# Altium footprint library mypcblib.PcbLib: 128 footprints (part 8 of 8)
Each footprint in its own frame and in the unit in brackets; x right, y up, seen from the top. Pads: shape width x height; smd on the part's side, far side on the other; paste and mask are expansions set on the pad; w line width, h text height; cw(c..) or ccw(c..) is an arc to the next point about the centre after c.
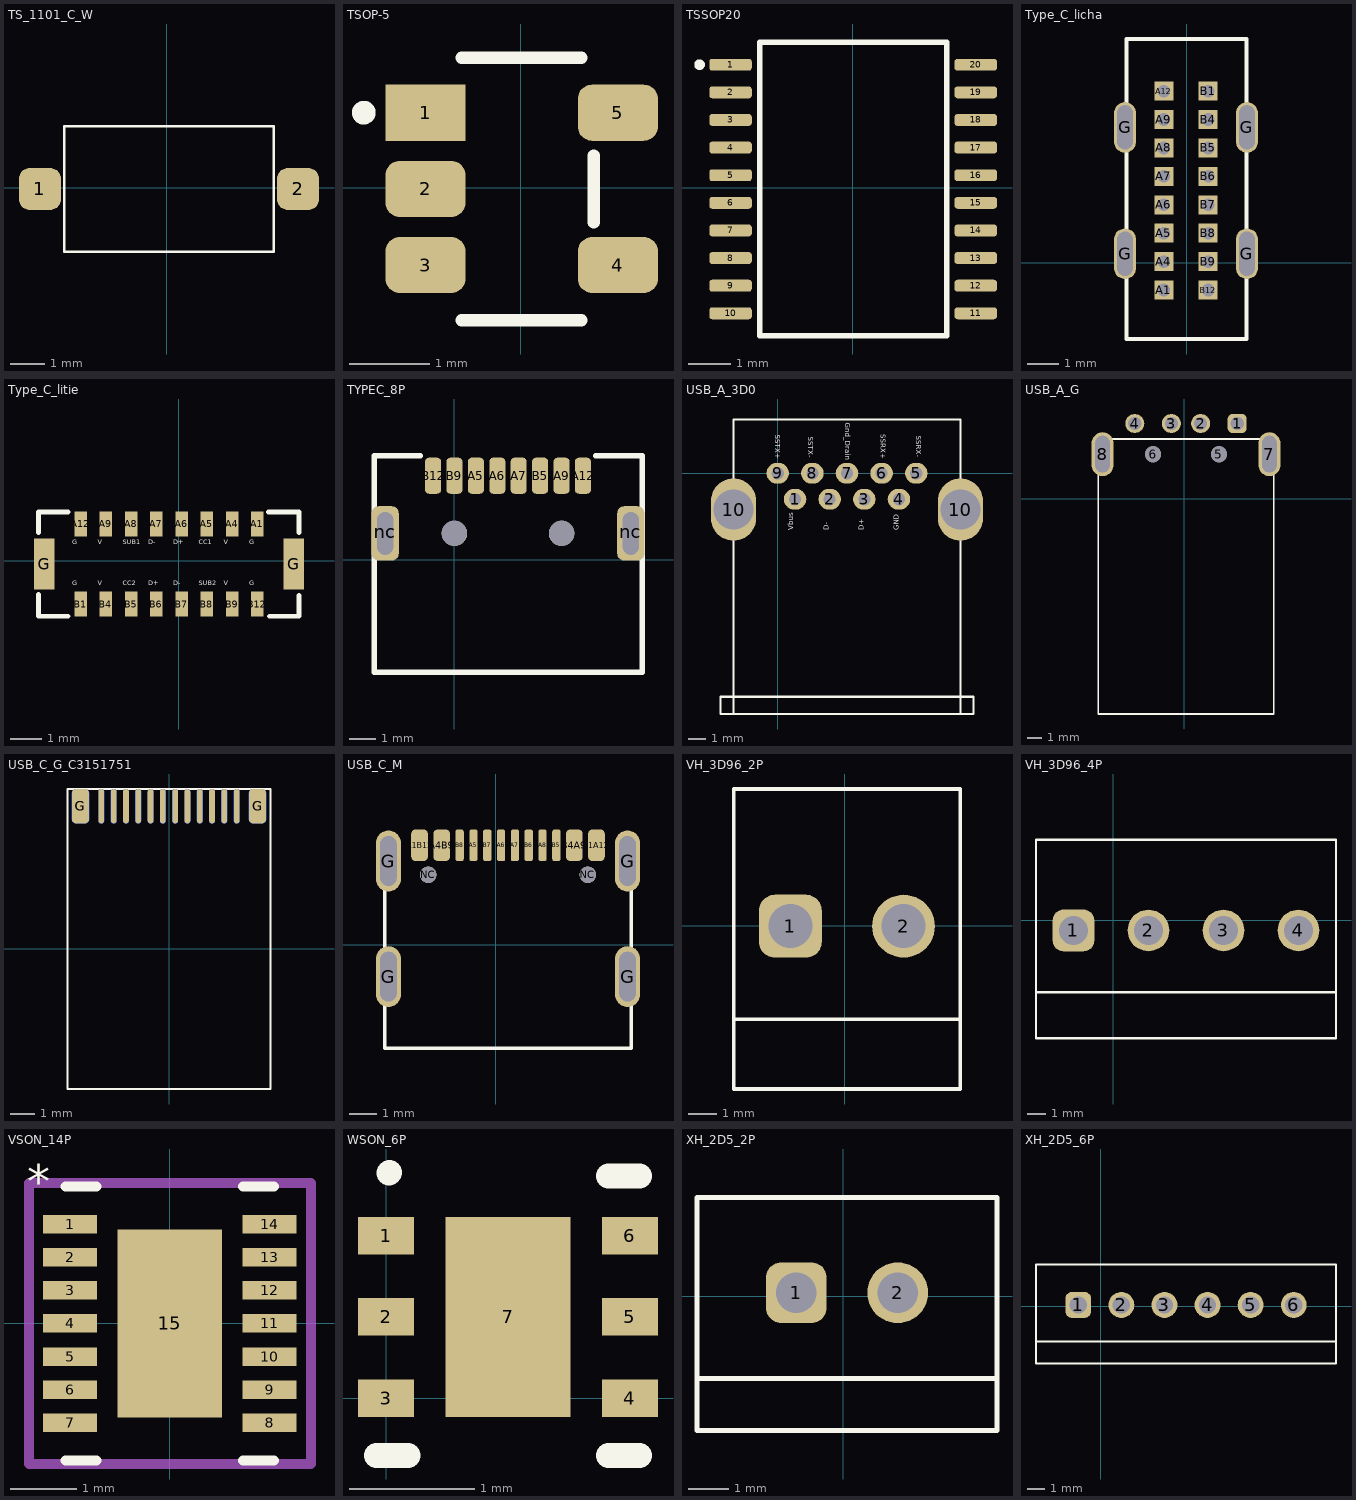
[diagram p7: the footprints below, top view; thin cyan lines are the x and y axes]

## TS_1101_C_W [mm]
pads (2):
  rrect50% 1.2x1.2 smd: 1(-3.64,-0.04) 2(3.76,-0.04)
Top Overlay:
  lines w0.08: -2.94,-1.84 3.06,-1.84 3.06,1.76 -2.94,1.76 -2.94,-1.84

## TSOP-5 [mm] "NCS2003SN2T1G"
pads (5):
  rect 1x0.7 smd: 1(-1.185,0.939)
  rrect50% 1x0.7 smd: 2(-1.185,-0.011) 3(-1.185,-0.961) 4(1.215,-0.961) 5(1.215,0.939)
Top Overlay:
  circle w0.152: c-1.956,0.94 r0.072
  lines w0.152: -0.737,-1.651 0.762,-1.651 ; -0.737,1.626 0.762,1.626 ; 0.914,-0.432 0.914,0.406

## TSSOP20 [mm]
pads (20):
  rrect50% 1x0.28 smd: 1(-2.87,2.9) 2(-2.87,2.25) 3(-2.87,1.6) 4(-2.87,0.95) 5(-2.87,0.3) 6(-2.87,-0.35) 7(-2.87,-1) 8(-2.87,-1.65) 9(-2.87,-2.3) 10(-2.87,-2.95) 11(2.9,-2.95) 12(2.9,-2.3) 13(2.9,-1.65) 14(2.9,-1) 15(2.9,-0.35) 16(2.9,0.3) 17(2.9,0.95) 18(2.9,1.6) 19(2.9,2.25) 20(2.9,2.9)
Top Overlay:
  circle w0.127: c-3.6,2.9 r0.06
  lines w0.127: 2.217,-2.84 2.217,-3.06 2.217,-2.41 2.217,-2.19 ; 2.217,-1.76 2.217,-1.54 ; 2.217,-1.11 2.217,-0.89 ; 2.217,-0.46 2.217,-0.24 ; 2.217,0.19 2.217,0.41 ; 2.217,0.84 2.217,1.06 ; 2.217,1.49 2.217,1.71 ; 2.217,2.14 2.217,2.36 ; 2.217,2.79 2.217,3.01 ; -2.183,-3.475 2.217,-3.475 2.217,3.425 -2.183,3.425 -2.183,-3.475
3D body "User Library-TSSOP20-TP.STEP": height 1.2, standoff 0, extent -3.255,-3.32 3.295,3.28

## Type_C_licha [mm] "C3151747"
pads (20):
  rect 0.6x0.6 hole 0.4: A1(-0.729,-0.863) A4(-0.729,0.037) A5(-0.729,0.937) A6(-0.729,1.837) A7(-0.729,2.737) A8(-0.729,3.637) A9(-0.729,4.537) A12(-0.729,5.437) B1(0.671,5.437) B4(0.671,4.537) B5(0.671,3.637) B6(0.671,2.737) B7(0.671,1.837) B8(0.671,0.937) B9(0.671,0.037) B12(0.671,-0.863)
  oval 0.7x1.6 hole 0.5 slot 1.4 at 90 deg: G(-1.959,0.287) G(-1.959,4.287) G(1.901,0.287) G(1.901,4.287)
Top Overlay:
  lines w0.127: -1.92,-2.413 1.88,-2.413 1.88,7.087 -1.92,7.087 -1.92,-2.413

## Type_C_litie [mm] "918-118A2021Y40002"
pads (18):
  rect 0.4x0.79 smd: A1(2.49,1.17) A4(1.69,1.17) A5(0.89,1.17) A6(0.09,1.17) A7(-0.71,1.17) A8(-1.51,1.17) A9(-2.31,1.17) A12(-3.11,1.17) B1(-3.11,-1.37) B4(-2.31,-1.37) B5(-1.51,-1.37) B6(-0.71,-1.37) B7(0.09,-1.37) B8(0.89,-1.37) B9(1.69,-1.37) B12(2.49,-1.37)
  rect 0.65x1.6 smd: G(-4.26,-0.1) G(3.64,-0.1)
Top Overlay:
  lines w0.152: -4.445,-1.067 -4.445,-1.753 -3.505,-1.753 ; -4.44,0.889 -4.44,1.547 -3.505,1.547 ; 2.845,1.549 3.81,1.549 3.81,0.889 ; 2.87,-1.753 3.81,-1.753 3.81,-1.092
  text "G" at -3.378,0.46 h0.25
  text "V" at -2.565,0.457 h0.25
  text "SUB1" at -1.778,0.46 h0.25
  text "D-" at -0.965,0.457 h0.25
  text "D+" at -0.178,0.457 h0.25
  text "CC1" at 0.635,0.46 h0.25
  text "V" at 1.422,0.457 h0.25
  text "G" at 2.235,0.46 h0.25
  text "G" at -3.378,-0.835 h0.25
  text "V" at -2.565,-0.838 h0.25
  text "CC2" at -1.778,-0.835 h0.25
  text "D+" at -0.965,-0.838 h0.25
  text "D-" at -0.178,-0.838 h0.25
  text "SUB2" at 0.635,-0.835 h0.25
  text "V" at 1.422,-0.838 h0.25
  text "G" at 2.235,-0.835 h0.25

## TYPEC_8P [mm]
pads (12):
  rrect50% 0.6x1.35 smd mask+0.051: A5(0.8,3.146) A6(1.6,3.146) A7(2.4,3.146) A9(4,3.146) A12(4.8,3.146) B5(3.2,3.146) B9(0,3.146) B12(-0.8,3.146)
  rrect50% 1.016x2.032 hole 0.6 slot 1.6 at 90 deg: nc(-2.587,0.991) nc(6.587,0.991)
  round 0.95 hole 0.95 mask+0.127: ""(0,0.991) ""(4,0.991)
Top Overlay:
  lines w0.203: -1.27,3.886 -2.997,3.886 -2.997,-4.191 7.01,-4.191 7.01,3.886 5.283,3.886

## USB_A_3D0 [mm] "C2845330"
pads (11):
  oval 1.3x1.2 hole 0.7: 1(1,-1.5) 2(3,-1.5) 3(5,-1.5) 4(7,-1.5) 5(8,0) 6(6,0) 7(4,0) 8(2,0) 9(0,0)
  oval 2.6x3.6 hole 2.3: 10(-2.55,-2.1) 10(10.55,-2.1)
Top Overlay:
  lines w0.127: -2.55,-13.9 -2.55,3.1 10.55,3.1 10.55,-13.9 ; -3.3,-13.9 -3.3,-12.9 11.3,-12.9 11.3,-13.9 -3.3,-13.9
  text "SSTX+" at -0.249,2.216 h0.5
  text "SSTX-" at 1.656,2.114 h0.5
  text "Gnd_Drain" at 3.772,2.921 h0.5
  text "SSRX+" at 5.847,2.266 h0.5
  text "SSRX-" at 7.879,2.164 h0.5
  text "GND" at 7.107,-3.302 h0.5
  text "D+" at 5.08,-3.302 h0.5
  text "D-" at 3.048,-3.302 h0.5
  text "Vbus" at 1.011,-3.301 h0.5

## USB_A_G [mm]
pads (8):
  rrect50% 1.3x1.3 hole 0.9: 1(3.61,5.124)
  round 1.3 hole 0.9: 2(1.11,5.124) 3(-0.89,5.124) 4(-3.39,5.124)
  round 1.1 hole 1.1: 5(2.36,3.024) 6(-2.14,3.024)
  oval 1.5x3 hole 1 slot 2.5 at 90 deg: 7(5.81,3.028) 8(-5.59,3.028)
Top Overlay:
  lines w0.127: -5.89,-14.726 -5.89,4.074 6.11,4.074 6.11,-14.726 -5.89,-14.726

## USB_C_G_C3151751 [mm]
pads (28):
  oval 0.23x1.4 smd: A1(2.74,5.8) A2(2.24,5.8) A3(1.74,5.8) A4(1.24,5.8) A5(0.74,5.8) A6(0.24,5.8) A7(-0.26,5.8) A8(-0.76,5.8) A9(-1.26,5.8) A10(-1.76,5.8) A11(-2.26,5.8) A12(-2.76,5.8)
  oval 0.23x1.4 smd far side: B1(-2.76,5.8) B2(-2.26,5.8) B3(-1.76,5.8) B4(-1.26,5.8) B5(-0.76,5.8) B6(-0.26,5.8) B7(0.24,5.8) B8(0.74,5.8) B9(1.24,5.8) B10(1.74,5.8) B11(2.24,5.8) B12(2.74,5.8)
  rrect50% 0.7x1.4 smd: G(-3.61,5.8) G(3.59,5.8)
  rrect50% 0.7x1.4 smd far side: G(-3.61,5.8) G(3.59,5.8)
Top Overlay:
  lines w0.08: -4.135,-5.7 -4.135,6.5 4.115,6.5 4.115,-5.7 -4.135,-5.7

## USB_C_M [mm]
pads (18):
  rrect50% 0.6x1.14 smd mask+0.051: A1B12(-2.761,3.604) A4B9(-1.961,3.604) B1A12(3.639,3.604) B4A9(2.839,3.604)
  rrect50% 0.3x1.14 smd mask+0.051: A5(-0.811,3.604) A6(0.189,3.604) A7(0.689,3.604) A8(1.689,3.604) B5(2.188,3.604) B6(1.189,3.604) B7(-0.311,3.604) B8(-1.311,3.604)
  oval 0.9x2.2 hole 0.6 slot 1.8 at 90 deg: G(-3.886,-1.146) G(-3.886,3.034) G(4.764,-1.146) G(4.764,3.034)
  round 0.6 hole 0.6: NC(-2.451,2.534) NC(3.328,2.534)
Top Overlay:
  lines w0.127: -4.012,3.604 -4.012,-3.746 4.889,-3.746 4.889,3.604

## VH_3D96_2P [mm]
pads (2):
  rrect50% 2.2x2.2 hole 1.54: 1(-1.895,-0.013)
  round 2.2 hole 1.54: 2(2.065,-0.013)
Top Overlay:
  lines w0.127: -3.86,-3.27 4.03,-3.27 ; -3.875,-5.713 4.045,-5.713 4.045,4.787 -3.875,4.787 -3.875,-5.713

## VH_3D96_4P [mm]
pads (4):
  rrect50% 2.2x2.2 hole 1.54: 1(-2.1,-0.54)
  round 2.2 hole 1.54: 2(1.86,-0.54) 3(5.82,-0.54) 4(9.78,-0.54)
Top Overlay:
  lines w0.127: -4.065,-3.797 11.75,-3.8 ; -4.08,-6.24 -4.08,4.26 11.76,4.26 11.76,-6.24 -4.08,-6.24

## VSON_14P [mm]
pads (15):
  rect 0.82x0.28 smd paste-0.397 mask+0.051: 1(-1.51,1.5) 2(-1.51,1) 3(-1.51,0.5) 4(-1.51,0) 5(-1.51,-0.5) 6(-1.51,-1) 7(-1.51,-1.5) 8(1.51,-1.5) 9(1.51,-1) 10(1.51,-0.5) 11(1.51,0) 12(1.51,0.5) 13(1.51,1) 14(1.51,1.5)
  rect 1.58x2.85 smd paste-1.412 mask+0.127: 15(0,0)
Top Overlay:
  lines w0.152: -1.575,-2.075 -1.11,-2.075 ; -1.575,2.075 -1.11,2.075 ; 1.11,-2.075 1.575,-2.075 ; 1.11,2.075 1.575,2.075
  text "*" at -2.159,1.905 h0.51
Top Paste:
  drawing of 26 lines, arcs and shapes, not listed
Top Solder:
  region: 0.594,-1.488 0.594,1.489 0.854,1.489 0.854,-1.488
  region: 0.194,-1.488 0.194,1.489 -0.194,1.489 -0.194,-1.488
  region: -0.854,-1.488 -0.854,1.489 -0.594,1.489 -0.594,-1.488
  region: -0.854,-1.488 -0.854,-0.987 0.854,-0.987 0.854,-1.488
  region: -0.854,-0.587 -0.854,-0.2 0.854,-0.2 0.854,-0.587
  region: -0.854,0.2 -0.854,0.587 0.854,0.587 0.854,0.2
  region: -0.854,0.987 -0.854,1.489 0.854,1.489 0.854,0.987
  region: 1.92,1.64 1.1,1.64 1.1,1.36 1.92,1.36
  region: 1.92,1.14 1.1,1.14 1.1,0.86 1.92,0.86
  region: 1.92,0.64 1.1,0.64 1.1,0.36 1.92,0.36
  region: 1.92,0.14 1.1,0.14 1.1,-0.14 1.92,-0.14
  region: 1.92,-0.36 1.1,-0.36 1.1,-0.64 1.92,-0.64
  region: 1.92,-0.86 1.1,-0.86 1.1,-1.14 1.92,-1.14
  region: 1.92,-1.36 1.1,-1.36 1.1,-1.64 1.92,-1.64
  region: -1.1,-1.36 -1.92,-1.36 -1.92,-1.64 -1.1,-1.64
  region: -1.1,-0.86 -1.92,-0.86 -1.92,-1.14 -1.1,-1.14
  region: -1.1,-0.36 -1.92,-0.36 -1.92,-0.64 -1.1,-0.64
  region: -1.1,0.14 -1.92,0.14 -1.92,-0.14 -1.1,-0.14
  region: -1.1,0.64 -1.92,0.64 -1.92,0.36 -1.1,0.36
  region: -1.1,1.14 -1.92,1.14 -1.92,0.86 -1.1,0.86
  region: -1.1,1.64 -1.92,1.64 -1.92,1.36 -1.1,1.36
Mechanical 15:
  lines w0.152: -2.134,-2.126 -2.134,2.126 2.134,2.126 2.134,-2.126 -2.134,-2.126
3D body "DSJ0014A.stp": height 1, standoff 0, extent -1.487,-2 1.513,2

## WSON_6P [mm]
pads (7):
  rect 0.45x0.3 smd paste+0 mask+0.051: 1(0,1.3) 2(0,0.65) 3(0,0) 4(1.95,0) 5(1.95,0.65) 6(1.95,1.3)
  rect 1x1.6 smd paste-0.5 mask+0.051: 7(0.975,0.65)
Top Overlay:
  lines w0.2: -0.076,-0.457 0.174,-0.457 ; 0.022,1.799 0.025,1.803 ; 1.778,-0.457 2.028,-0.457 ; 1.778,1.778 2.028,1.778
Top Paste:
  region: 0.476,0.789 0.475,0.799 0.475,1.401 0.476,1.411 0.479,1.42 0.483,1.428 0.489,1.436 0.497,1.442 0.505,1.446 0.514,1.449 0.524,1.45 1.426,1.45 1.436,1.449 1.445,1.446 1.453,1.442 1.461,1.436 1.467,1.428 1.471,1.42 1.474,1.411 1.475,1.401 1.475,0.799 1.474,0.789 1.471,0.78 1.467,0.772 1.461,0.764 1.453,0.758 1.445,0.754 1.436,0.751 1.426,0.75 0.524,0.75 0.514,0.751 0.505,0.754 0.497,0.758 0.489,0.764 0.483,0.772 0.479,0.78
  region: 0.476,-0.111 0.475,-0.101 0.475,0.501 0.476,0.511 0.479,0.52 0.483,0.528 0.489,0.536 0.497,0.542 0.505,0.546 0.514,0.549 0.524,0.55 1.426,0.55 1.436,0.549 1.445,0.546 1.453,0.542 1.461,0.536 1.467,0.528 1.471,0.52 1.474,0.511 1.475,0.501 1.475,-0.101 1.474,-0.111 1.471,-0.12 1.467,-0.128 1.461,-0.136 1.453,-0.142 1.445,-0.146 1.436,-0.149 1.426,-0.15 0.524,-0.15 0.514,-0.149 0.505,-0.146 0.497,-0.142 0.489,-0.136 0.483,-0.128 0.479,-0.12
3D body "DRV0006A.stp": height 0.8, standoff 0, extent -0.035,-0.34 1.965,1.66

## XH_2D5_2P [mm]
pads (2):
  rrect50% 1.5x1.5 hole 1: 1(-1.163,0.083)
  round 1.5 hole 1: 2(1.337,0.083)
Top Overlay:
  lines w0.127: -3.61,-2.03 3.78,-2.03 ; -3.613,-3.317 -3.613,2.433 3.787,2.433 3.787,-3.317 -3.613,-3.317

## XH_2D5_6P [mm]
pads (6):
  rrect50% 1.5x1.5 hole 1: 1(-1.313,0.083)
  round 1.5 hole 1: 2(1.187,0.083) 3(3.687,0.083) 4(6.187,0.083) 5(8.687,0.083) 6(11.187,0.083)
Top Overlay:
  lines w0.127: -3.75,-2.03 13.62,-2.03 ; 13.63,2.433 -3.763,2.433 -3.763,-3.317 13.637,-3.317 13.637,2.433